# Altium footprint library MAX22501EATA+.PcbLib: 1 footprints
Each footprint in its own frame and in the unit in brackets; x right, y up, seen from the top. Pads: shape width x height; smd on the part's side, far side on the other; paste and mask are expansions set on the pad; w line width, h text height; cw(c..) or ccw(c..) is an arc to the next point about the centre after c.
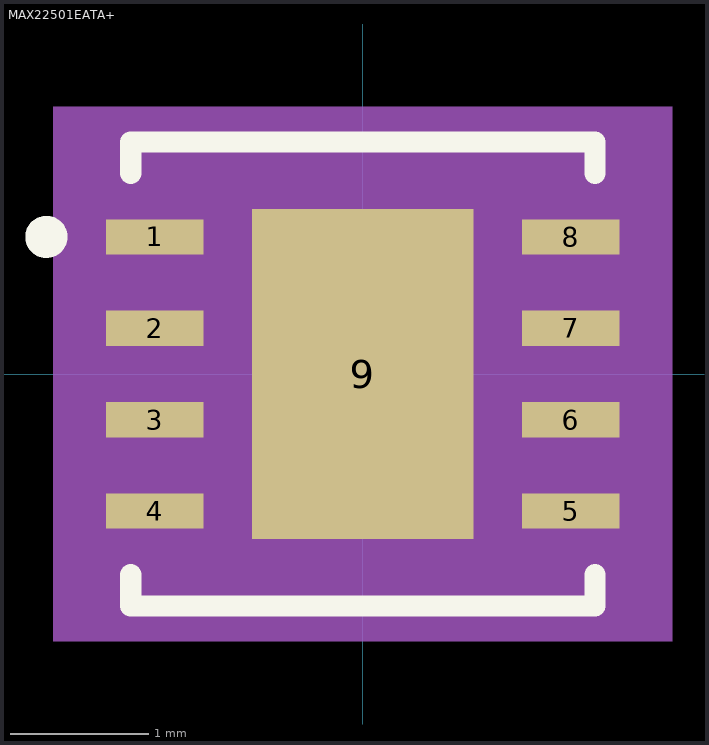
[diagram p0: the footprint, top view; thin cyan lines are the x and y axes]

## MAX22501EATA+ [mil]
pads (9):
  rect 27.75x10 smd paste+0 mask+0: 1(-59.13,39) 2(-59.13,13) 3(-59.13,-13) 4(-59.13,-39) 5(59.13,-39) 6(59.13,-13) 7(59.13,13) 8(59.13,39)
  rect 63x94 smd paste-46.5 mask+0: 9(0,0)
Top Overlay:
  circle w6: c-90,39 r3
  lines w6: -66,-57.1 -66,-66 66,-66 66,-57.1 ; -66,57.1 -66,66 66,66 66,57.1
Top Paste:
  region: 31.5,47 -31.5,47 -31.5,-47 31.5,-47
Mechanical 5:
  region: 88,-76 -88,-76 -88,76 88,76
Mechanical 13:
  lines w0: -12,61 ccw(c0,61) 12,61
  lines w1: -61,-61 61,-61 61,61 -61,61 -61,-61
Mechanical 15:
  region: -71,-54 -83,-54 -83,54 -71,54 -71,71 71,71 71,54 83,54 83,-54 71,-54 71,-71 -71,-71
  lines w6: -83,-54 -83,54 -71,54 -71,71 71,71 71,54 83,54 83,-54 71,-54 71,-71 -71,-71 -71,-54 -83,-54
3D body: height 10, standoff 0, extent 0,0 10,10
3D body "MAX22501EATA+.step": height 32.09, standoff 0, extent -60.98,-60.98 60.99,60.99